# Altium schematic symbol library Rising Clamp System WR-TBL_3.81 mm.SchLib: 26 symbols
Pins are listed as number, name and electrical type; pins without a type are passive.

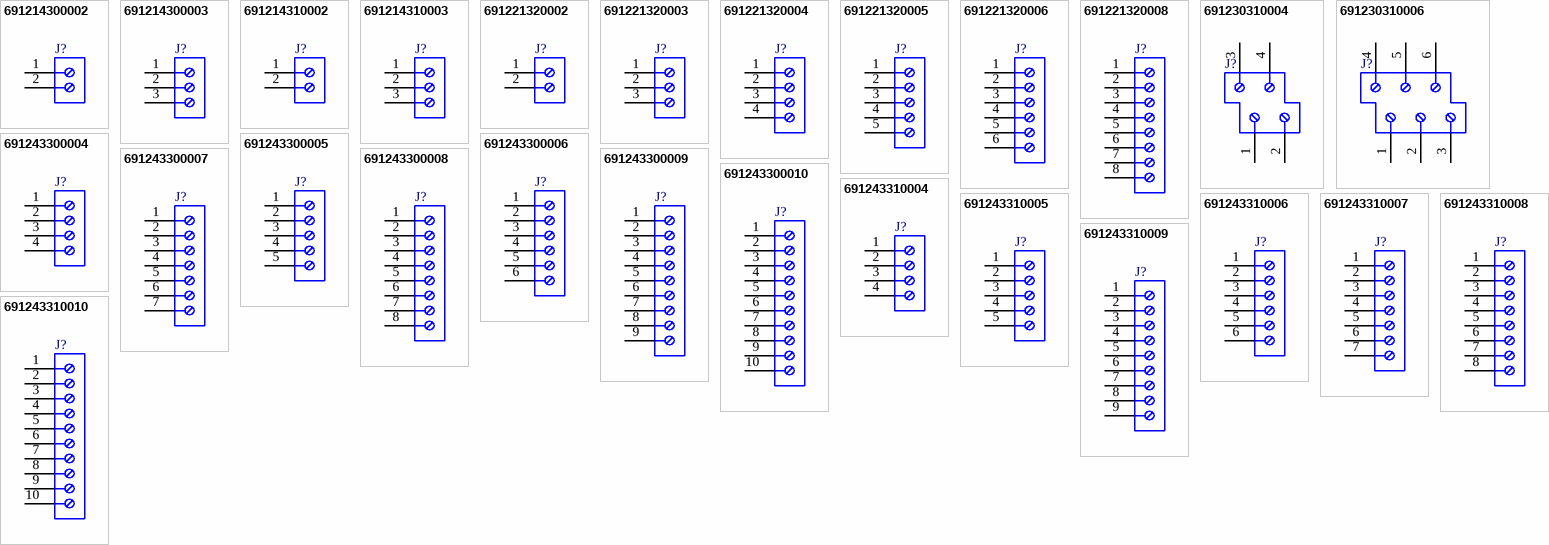
[diagram p0: symbols 691214300002 to 691243310010]

## 691214300002
designator J?
Serie 2143 - 3.81 mm Vertical Entry with Rising Cage Clamp WR-TBL, 2 pin; Part Number: 691214300002; Pin Number: 2; Pitch: 3.81 mm; ComponentLink1Description: Manufacturer; ComponentLink1URL: http://www.we-online.de; ComponentLink2Description: Datasheet; ComponentLink2URL: http://katalog.we-online.de/em/datasheet/6912143000xx.pdf; Published Date: June 2018; Publisher: Wurth Elektronik; Operating Temperature: -30 to 120 degC; Mounting Technology: THT; Packaging: Box
footprint 691214300002
pins: 1, 2

## 691214300003
designator J?
Serie 2143 - 3.81 mm Vertical Entry with Rising Cage Clamp WR-TBL, 3 pin; Part Number: 691214300003; Pin Number: 3; Pitch: 3.81 mm; ComponentLink1Description: Manufacturer; ComponentLink1URL: http://www.we-online.de; ComponentLink2Description: Datasheet; ComponentLink2URL: http://katalog.we-online.de/em/datasheet/6912143000xx.pdf; Published Date: June 2018; Publisher: Wurth Elektronik; Operating Temperature: -30 to 120 degC; Mounting Technology: THT; Packaging: Box
footprint 691214300003
pins: 1, 2, 3

## 691214310002
designator J?
Serie 2143 - 3.81 mm Horizontal Cable Entry with Rising Cage Clamp WR-TBL, 2 pin; Part Number: 691214310002; Pin Number: 2; Pitch: 3.81 mm; ComponentLink1Description: Manufacturer; ComponentLink1URL: http://www.we-online.de; ComponentLink2Description: Datasheet; ComponentLink2URL: http://katalog.we-online.de/em/datasheet/6912143100xx.pdf; Published Date: June 2018; Publisher: Wurth Elektronik; Operating Temperature: -40 to 105 degC; Mounting Technology: THT; Packaging: Box
footprint 691214310002
pins: 1, 2

## 691214310003
designator J?
Serie 2143 - 3.81 mm Horizontal Cable Entry with Rising Cage Clamp WR-TBL, 3 pin; Part Number: 691214310003; Pin Number: 3; Pitch: 3.81 mm; ComponentLink1Description: Manufacturer; ComponentLink1URL: http://www.we-online.de; ComponentLink2Description: Datasheet; ComponentLink2URL: http://katalog.we-online.de/em/datasheet/6912143100xx.pdf; Published Date: June 2018; Publisher: Wurth Elektronik; Operating Temperature: -40 to 105 degC; Mounting Technology: THT; Packaging: Box
footprint 691214310003
pins: 1, 2, 3

## 691221320002
designator J?
Serie 2213 - 3.81 mm 55deg Entry Modular with Rising Cage Clamp WR-TBL, 2 pin; Part Number: 691221320002; Pin Number: 2; Pitch: 3.81 mm; ComponentLink1Description: Manufacturer; ComponentLink1URL: http://www.we-online.de; ComponentLink2Description: Datasheet; ComponentLink2URL: http://katalog.we-online.de/em/datasheet/6912213200xx.pdf; Published Date: June 2018; Publisher: Wurth Elektronik; Operating Temperature: -40 to 105 degC; Mounting Technology: THT; Packaging: Box
footprint 691221320002
pins: 1, 2

## 691221320003
designator J?
Serie 2213 - 3.81 mm 55deg Entry Modular with Rising Cage Clamp WR-TBL, 3 pin; Part Number: 691221320003; Pin Number: 3; Pitch: 3.81 mm; ComponentLink1Description: Manufacturer; ComponentLink1URL: http://www.we-online.de; ComponentLink2Description: Datasheet; ComponentLink2URL: http://katalog.we-online.de/em/datasheet/6912213200xx.pdf; Published Date: June 2018; Publisher: Wurth Elektronik; Operating Temperature: -40 to 105 degC; Mounting Technology: THT; Packaging: Box
footprint 691221320003
pins: 1, 2, 3

## 691221320004
designator J?
Serie 2213 - 3.81 mm 55deg Entry Modular with Rising Cage Clamp WR-TBL, 4 pin; Part Number: 691221320004; Pin Number: 4; Pitch: 3.81 mm; ComponentLink1Description: Manufacturer; ComponentLink1URL: http://www.we-online.de; ComponentLink2Description: Datasheet; ComponentLink2URL: http://katalog.we-online.de/em/datasheet/6912213200xx.pdf; Published Date: June 2018; Publisher: Wurth Elektronik; Operating Temperature: -40 to 105 degC; Mounting Technology: THT; Packaging: Box
footprint 691221320004
pins: 1, 2, 3, 4

## 691221320005
designator J?
Serie 2213 - 3.81 mm 55deg Entry Modular with Rising Cage Clamp WR-TBL, 5 pin; Part Number: 691221320005; Pin Number: 5; Pitch: 3.81 mm; ComponentLink1Description: Manufacturer; ComponentLink1URL: http://www.we-online.de; ComponentLink2Description: Datasheet; ComponentLink2URL: http://katalog.we-online.de/em/datasheet/6912213200xx.pdf; Published Date: June 2018; Publisher: Wurth Elektronik; Operating Temperature: -40 to 105 degC; Mounting Technology: THT; Packaging: Box
footprint 691221320005
pins: 1, 2, 3, 4, 5

## 691221320006
designator J?
Serie 2213 - 3.81 mm 55deg Entry Modular with Rising Cage Clamp WR-TBL, 6 pin; Part Number: 691221320006; Pin Number: 6; Pitch: 3.81 mm; ComponentLink1Description: Manufacturer; ComponentLink1URL: http://www.we-online.de; ComponentLink2Description: Datasheet; ComponentLink2URL: http://katalog.we-online.de/em/datasheet/6912213200xx.pdf; Published Date: June 2018; Publisher: Wurth Elektronik; Operating Temperature: -40 to 105 degC; Mounting Technology: THT; Packaging: Box
footprint 691221320006
pins: 1, 2, 3, 4, 5, 6

## 691221320008
designator J?
Serie 2213 - 3.81 mm 55deg Entry Modular with Rising Cage Clamp WR-TBL, 8 pin; Part Number: 691221320008; Pin Number: 8; Pitch: 3.81 mm; ComponentLink1Description: Manufacturer; ComponentLink1URL: http://www.we-online.de; ComponentLink2Description: Datasheet; ComponentLink2URL: http://katalog.we-online.de/em/datasheet/6912213200xx.pdf; Published Date: June 2018; Publisher: Wurth Elektronik; Operating Temperature: -40 to 105 degC; Mounting Technology: THT; Packaging: Box
footprint 691221320008
pins: 1, 2, 3, 4, 5, 6, 7, 8

## 691230310004
designator J?
Serie 2303 - 3.81 mm Double Level Horizontal Entry Modular with Rising Clamp WR-TBL, 4 pin; Part Number: 691230310004; Pin Number: 4; Pitch: 3.81 mm; ComponentLink1Description: Manufacturer; ComponentLink1URL: http://www.we-online.de; ComponentLink2Description: Datasheet; ComponentLink2URL: http://katalog.we-online.de/em/datasheet/6912303100xx.pdf; Published Date: June 2018; Publisher: Wurth Elektronik; Operating Temperature: -40 to 105 degC; Mounting Technology: THT; Packaging: Box
footprint 691230310004
pins: 1, 2, 3, 4

## 691230310006
designator J?
Serie 2303 - 3.81 mm Double Level Horizontal Entry Modular with Rising Clamp WR-TBL, 6 pin; Part Number: 691230310006; Pin Number: 6; Pitch: 3.81 mm; ComponentLink1Description: Manufacturer; ComponentLink1URL: http://www.we-online.de; ComponentLink2Description: Datasheet; ComponentLink2URL: http://katalog.we-online.de/em/datasheet/6912303100xx.pdf; Published Date: June 2018; Publisher: Wurth Elektronik; Operating Temperature: -40 to 105 degC; Mounting Technology: THT; Packaging: Box
footprint 691230310006
pins: 1, 2, 3, 4, 5, 6

## 691243300004
designator J?
Serie 2433 - 3.81 mm Vertical Entry with Rising Cage Clamp WR-TBL, 4 pin; Part Number: 691243300004; Pin Number: 4; Pitch: 3.81 mm; ComponentLink1Description: Manufacturer; ComponentLink1URL: http://www.we-online.de; ComponentLink2Description: Datasheet; ComponentLink2URL: http://katalog.we-online.de/em/datasheet/6912433000xx.pdf; Published Date: June 2018; Publisher: Wurth Elektronik; Operating Temperature: -30 to 120 degC; Mounting Technology: THT; Packaging: Box
footprint 691243300004
pins: 1, 2, 3, 4

## 691243300005
designator J?
Serie 2433 - 3.81 mm Vertical Entry with Rising Cage Clamp WR-TBL, 5 pin; Part Number: 691243300005; Pin Number: 5; Pitch: 3.81 mm; ComponentLink1Description: Manufacturer; ComponentLink1URL: http://www.we-online.de; ComponentLink2Description: Datasheet; ComponentLink2URL: http://katalog.we-online.de/em/datasheet/6912433000xx.pdf; Published Date: June 2018; Publisher: Wurth Elektronik; Operating Temperature: -30 to 120 degC; Mounting Technology: THT; Packaging: Box
footprint 691243300005
pins: 1, 2, 3, 4, 5

## 691243300006
designator J?
Serie 2433 - 3.81 mm Vertical Entry with Rising Cage Clamp WR-TBL, 6 pin; Part Number: 691243300006; Pin Number: 6; Pitch: 3.81 mm; ComponentLink1Description: Manufacturer; ComponentLink1URL: http://www.we-online.de; ComponentLink2Description: Datasheet; ComponentLink2URL: http://katalog.we-online.de/em/datasheet/6912433000xx.pdf; Published Date: June 2018; Publisher: Wurth Elektronik; Operating Temperature: -30 to 120 degC; Mounting Technology: THT; Packaging: Box
footprint 691243300006
pins: 1, 2, 3, 4, 5, 6

## 691243300007
designator J?
Serie 2433 - 3.81 mm Vertical Entry with Rising Cage Clamp WR-TBL, 7 pin; Part Number: 691243300007; Pin Number: 7; Pitch: 3.81 mm; ComponentLink1Description: Manufacturer; ComponentLink1URL: http://www.we-online.de; ComponentLink2Description: Datasheet; ComponentLink2URL: http://katalog.we-online.de/em/datasheet/6912433000xx.pdf; Published Date: June 2018; Publisher: Wurth Elektronik; Operating Temperature: -30 to 120 degC; Mounting Technology: THT; Packaging: Box
footprint 691243300007
pins: 1, 2, 3, 4, 5, 6, 7

## 691243300008
designator J?
Serie 2433 - 3.81 mm Vertical Entry with Rising Cage Clamp WR-TBL, 8 pin; Part Number: 691243300008; Pin Number: 8; Pitch: 3.81 mm; ComponentLink1Description: Manufacturer; ComponentLink1URL: http://www.we-online.de; ComponentLink2Description: Datasheet; ComponentLink2URL: http://katalog.we-online.de/em/datasheet/6912433000xx.pdf; Published Date: June 2018; Publisher: Wurth Elektronik; Operating Temperature: -30 to 120 degC; Mounting Technology: THT; Packaging: Box
footprint 691243300008
pins: 1, 2, 3, 4, 5, 6, 7, 8

## 691243300009
designator J?
Serie 2433 - 3.81 mm Vertical Entry with Rising Cage Clamp WR-TBL, 9 pin; Part Number: 691243300009; Pin Number: 9; Pitch: 3.81 mm; ComponentLink1Description: Manufacturer; ComponentLink1URL: http://www.we-online.de; ComponentLink2Description: Datasheet; ComponentLink2URL: http://katalog.we-online.de/em/datasheet/6912433000xx.pdf; Published Date: June 2018; Publisher: Wurth Elektronik; Operating Temperature: -30 to 120 degC; Mounting Technology: THT; Packaging: Box
footprint 691243300009
pins: 1, 2, 3, 4, 5, 6, 7, 8, 9

## 691243300010
designator J?
Serie 2433 - 3.81 mm Vertical Entry with Rising Cage Clamp WR-TBL, 10 pin; Part Number: 691243300010; Pin Number: 10; Pitch: 3.81 mm; ComponentLink1Description: Manufacturer; ComponentLink1URL: http://www.we-online.de; ComponentLink2Description: Datasheet; ComponentLink2URL: http://katalog.we-online.de/em/datasheet/6912433000xx.pdf; Published Date: June 2018; Publisher: Wurth Elektronik; Operating Temperature: -30 to 120 degC; Mounting Technology: THT; Packaging: Box
footprint 691243300010
pins: 1, 2, 3, 4, 5, 6, 7, 8, 9, 10

## 691243310004
designator J?
Serie 2433 - 3.81 mm Horizontal Entry Modular with Rising Cage Clamp WR-TBL, 4 pin; Part Number: 691243310004; Pin Number: 4; Pitch: 3.81 mm; ComponentLink1Description: Manufacturer; ComponentLink1URL: http://www.we-online.de; ComponentLink2Description: Datasheet; ComponentLink2URL: http://katalog.we-online.de/em/datasheet/6912433100XX.pdf; Published Date: June 2018; Publisher: Wurth Elektronik; Operating Temperature: -30 to 120 degC; Mounting Technology: THT; Packaging: Box
footprint 691243310004
pins: 1, 2, 3, 4

## 691243310005
designator J?
Serie 2433 - 3.81 mm Horizontal Entry Modular with Rising Cage Clamp WR-TBL, 5 pin; Part Number: 691243310005; Pin Number: 5; Pitch: 3.81 mm; ComponentLink1Description: Manufacturer; ComponentLink1URL: http://www.we-online.de; ComponentLink2Description: Datasheet; ComponentLink2URL: http://katalog.we-online.de/em/datasheet/6912433100XX.pdf; Published Date: June 2018; Publisher: Wurth Elektronik; Operating Temperature: -30 to 120 degC; Mounting Technology: THT; Packaging: Box
footprint 691243310005
pins: 1, 2, 3, 4, 5

## 691243310006
designator J?
Serie 2433 - 3.81 mm Horizontal Entry Modular with Rising Cage Clamp WR-TBL, 6 pin; Part Number: 691243310006; Pin Number: 6; Pitch: 3.81 mm; ComponentLink1Description: Manufacturer; ComponentLink1URL: http://www.we-online.de; ComponentLink2Description: Datasheet; ComponentLink2URL: http://katalog.we-online.de/em/datasheet/6912433100XX.pdf; Published Date: June 2018; Publisher: Wurth Elektronik; Operating Temperature: -30 to 120 degC; Mounting Technology: THT; Packaging: Box
footprint 691243310006
pins: 1, 2, 3, 4, 5, 6

## 691243310007
designator J?
Serie 2433 - 3.81 mm Horizontal Entry Modular with Rising Cage Clamp WR-TBL, 7 pin; Part Number: 691243310007; Pin Number: 7; Pitch: 3.81 mm; ComponentLink1Description: Manufacturer; ComponentLink1URL: http://www.we-online.de; ComponentLink2Description: Datasheet; ComponentLink2URL: http://katalog.we-online.de/em/datasheet/6912433100XX.pdf; Published Date: June 2018; Publisher: Wurth Elektronik; Operating Temperature: -30 to 120 degC; Mounting Technology: THT; Packaging: Box
footprint 691243310007
pins: 1, 2, 3, 4, 5, 6, 7

## 691243310008
designator J?
Serie 2433 - 3.81 mm Horizontal Entry Modular with Rising Cage Clamp WR-TBL, 8 pin; Part Number: 691243310008; Pin Number: 8; Pitch: 3.81 mm; ComponentLink1Description: Manufacturer; ComponentLink1URL: http://www.we-online.de; ComponentLink2Description: Datasheet; ComponentLink2URL: http://katalog.we-online.de/em/datasheet/6912433100XX.pdf; Published Date: June 2018; Publisher: Wurth Elektronik; Operating Temperature: -30 to 120 degC; Mounting Technology: THT; Packaging: Box
footprint 691243310008
pins: 1, 2, 3, 4, 5, 6, 7, 8

## 691243310009
designator J?
Serie 2433 - 3.81 mm Horizontal Entry Modular with Rising Cage Clamp WR-TBL, 9 pin; Part Number: 691243310009; Pin Number: 9; Pitch: 3.81 mm; ComponentLink1Description: Manufacturer; ComponentLink1URL: http://www.we-online.de; ComponentLink2Description: Datasheet; ComponentLink2URL: http://katalog.we-online.de/em/datasheet/6912433100XX.pdf; Published Date: June 2018; Publisher: Wurth Elektronik; Operating Temperature: -30 to 120 degC; Mounting Technology: THT; Packaging: Box
footprint 691243310009
pins: 1, 2, 3, 4, 5, 6, 7, 8, 9

## 691243310010
designator J?
Serie 2433 - 3.81 mm Horizontal Entry Modular with Rising Cage Clamp WR-TBL, 10 pin; Part Number: 691243310010; Pin Number: 10; Pitch: 3.81 mm; ComponentLink1Description: Manufacturer; ComponentLink1URL: http://www.we-online.de; ComponentLink2Description: Datasheet; ComponentLink2URL: http://katalog.we-online.de/em/datasheet/6912433100XX.pdf; Published Date: June 2018; Publisher: Wurth Elektronik; Operating Temperature: -30 to 120 degC; Mounting Technology: THT; Packaging: Box
footprint 691243310010
pins: 1, 2, 3, 4, 5, 6, 7, 8, 9, 10